# Altium footprint library MDL.PcbLib: 36 footprints (part 2 of 3)
Each footprint in its own frame and in the unit in brackets; x right, y up, seen from the top. Pads: shape width x height; smd on the part's side, far side on the other; paste and mask are expansions set on the pad; w line width, h text height; cw(c..) or ccw(c..) is an arc to the next point about the centre after c.
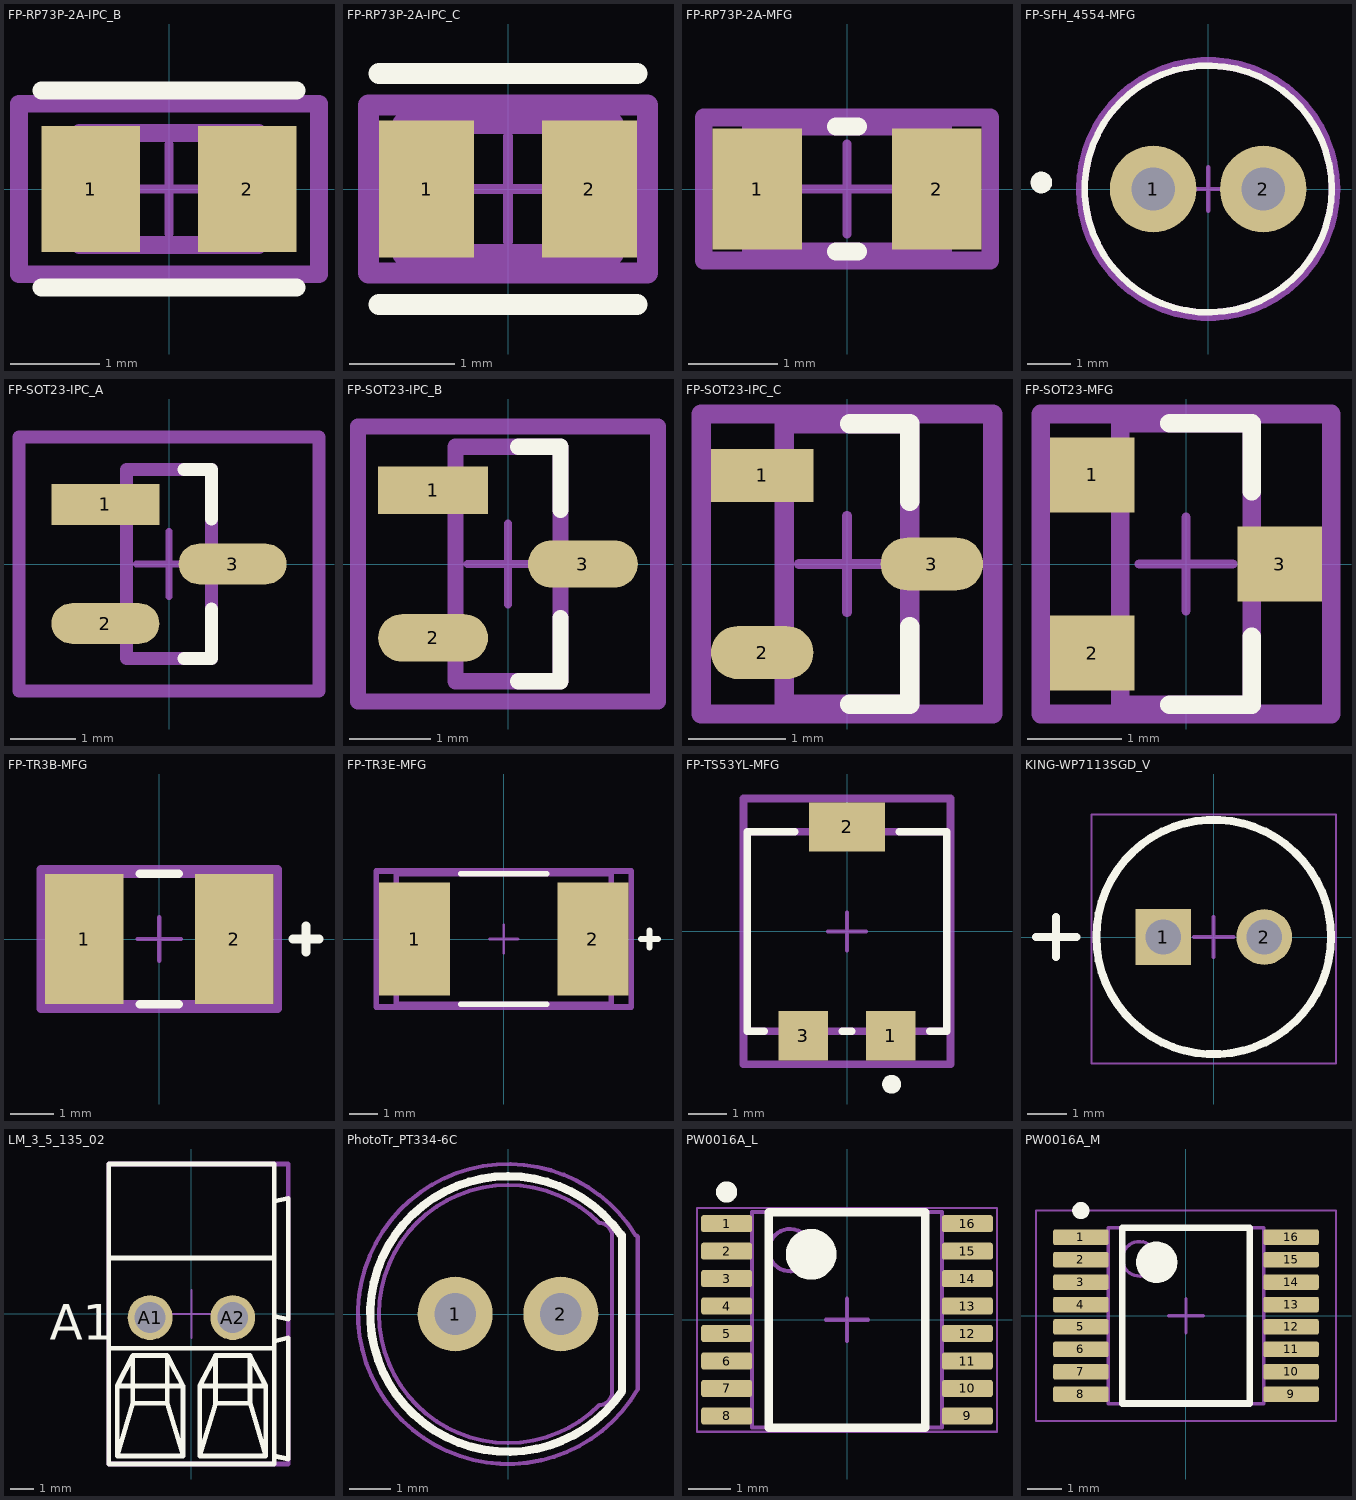
[diagram p1: the footprints below, top view; thin cyan lines are the x and y axes]

## FP-RP73P-2A-IPC_B [mm]
pads (2):
  rect 1.106x1.408 smd paste+0 mask+0: 1(-0.876,0) 2(0.876,0)
Top Overlay:
  lines w0.2: -1.429,-1.104 1.429,-1.104 ; -1.429,1.104 1.429,1.104
Top 3D Body:
  lines w0.2: -1,-0.625 -1,0.625 1,0.625 1,-0.625 -1,-0.625
Top Courtyard:
  lines w0.2: -1.679,-0.954 -1.679,0.954 1.679,0.954 1.679,-0.954 -1.679,-0.954
Top Assembly:
  lines w0.2: -1.679,-0.954 -1.679,0.954 1.679,0.954 1.679,-0.954 -1.679,-0.954
  text ".Designator" at 0,0.188 h1
Top Component Center:
  lines w0.1: -0.5,0 0.5,0 ; 0,-0.5 0,0.5
3D body "Res_TE_Connectivity_RP73PF2A1K15BTDF_eec.STEP": height 0.25, standoff 0, extent -1.679,-0.954 1.679,0.954

## FP-RP73P-2A-IPC_C [mm]
pads (2):
  rect 0.906x1.308 smd paste+0 mask+0: 1(-0.776,0) 2(0.776,0)
Top Overlay:
  lines w0.2: -1.229,-1.1 1.229,-1.1 ; -1.229,1.1 1.229,1.1
Top 3D Body:
  lines w0.2: -1,-0.625 1,-0.625 1,0.625 -1,0.625 -1,-0.625
Top Courtyard:
  lines w0.2: -1.329,-0.8 1.329,-0.8 1.329,0.8 -1.329,0.8 -1.329,-0.8
Top Assembly:
  lines w0.2: -1.329,-0.8 1.329,-0.8 1.329,0.8 -1.329,0.8 -1.329,-0.8
  text ".Designator" at 0,0.188 h1
Top Component Center:
  lines w0.1: -0.5,0 0.5,0 ; 0,-0.5 0,0.5
3D body "Res_TE_Connectivity_RP73PF2A1K15BTDF_eec.STEP": height 0.25, standoff 0, extent -1.329,-0.8 1.329,0.8

## FP-RP73P-2A-MFG [mm]
pads (2):
  rect 1x1.35 smd paste+0 mask+0: 1(-1,0) 2(1,0)
Top Overlay:
  lines w0.2: -0.125,-0.7 0.125,-0.7 ; -0.125,0.7 0.125,0.7
Top 3D Body:
  lines w0.2: -1.075,-0.7 1.075,-0.7 1.075,0.7 -1.075,0.7 -1.075,-0.7
Top Courtyard:
  lines w0.2: -1.6,-0.8 1.6,-0.8 1.6,0.8 -1.6,0.8 -1.6,-0.8
Top Assembly:
  lines w0.2: -1.6,-0.8 1.6,-0.8 1.6,0.8 -1.6,0.8 -1.6,-0.8
  text ".Designator" at 0,0.188 h1
Top Component Center:
  lines w0.1: -0.5,0 0.5,0 ; 0,-0.5 0,0.5
3D body "Res_TE_Connectivity_RP73PF2A1K15BTDF_eec.STEP": height 0.25, standoff 0, extent -1.6,-0.8 1.6,0.8

## FP-SFH_4554-MFG [mm]
pads (2):
  round 2 hole 1 paste-2539.97 mask+0: 1(-1.27,0) 2(1.27,0)
Top Overlay:
  circle w0.15: c0,0 r2.85
  circle w0.25: c-3.85,0.15 r0.125
Top 3D Body:
  circle w0.15: c0,0 r2.85
Top Courtyard:
  lines w0.2: -2.95,0 cw(c0,0) 2.95,0 cw(c0,0) -2.95,0
Top Assembly:
  text ".Designator" at 0,0.188 h1
Top Component Center:
  lines w0.1: -0.5,0 0.5,0 ; 0,-0.5 0,0.5
3D body "Diode_Osram_Opto_SFH_4554_eec.STEP": height 0.25, standoff 0, extent -2.95,-2.95 2.95,2.95

## FP-SOT23-IPC_A [mm]
pads (3):
  rect 1.659x0.627 smd paste+0 mask+0: 1(-0.977,0.915)
  rrect100% 1.659x0.627 smd paste+0 mask+0: 2(-0.977,-0.915) 3(0.977,0)
Top Overlay:
  lines w0.2: 0.228,-1.45 0.65,-1.45 0.65,-0.688 ; 0.228,1.45 0.65,1.45 0.65,0.688
Top 3D Body:
  lines w0.2: -0.65,-1.45 -0.65,1.45 0.65,1.45 0.65,-1.45 -0.65,-1.45
Top Courtyard:
  lines w0.2: -2.306,-1.95 -2.306,1.95 2.306,1.95 2.306,-1.95 -2.306,-1.95
Top Assembly:
  lines w0.2: -2.306,-1.95 -2.306,1.95 2.306,1.95 2.306,-1.95 -2.306,-1.95
  text ".Designator" at 0,-0.001 h1
Top Component Center:
  lines w0.1: -0.5,0 0.5,0 ; 0,-0.5 0,0.5
3D body "Diode_Diodes_Inc_BZX84C18-7-F_eec.STEP": height 0.25, standoff 0, extent -2.306,-1.95 2.306,1.95

## FP-SOT23-IPC_B [mm]
pads (3):
  rect 1.359x0.587 smd paste+0 mask+0: 1(-0.927,0.915)
  rrect100% 1.359x0.587 smd paste+0 mask+0: 2(-0.927,-0.915) 3(0.927,0)
Top Overlay:
  lines w0.2: 0.128,-1.45 0.65,-1.45 0.65,-0.668 ; 0.128,1.45 0.65,1.45 0.65,0.668
Top 3D Body:
  lines w0.2: -0.65,-1.45 0.65,-1.45 0.65,1.45 -0.65,1.45 -0.65,-1.45
Top Courtyard:
  lines w0.2: -1.856,-1.7 1.856,-1.7 1.856,1.7 -1.856,1.7 -1.856,-1.7
Top Assembly:
  lines w0.2: -1.856,-1.7 1.856,-1.7 1.856,1.7 -1.856,1.7 -1.856,-1.7
  text ".Designator" at 0,-0.001 h1
Top Component Center:
  lines w0.1: -0.5,0 0.5,0 ; 0,-0.5 0,0.5
3D body "Diode_Diodes_Inc_BZX84C18-7-F_eec.STEP": height 0.25, standoff 0, extent -1.856,-1.7 1.856,1.7

## FP-SOT23-IPC_C [mm]
pads (3):
  rect 1.059x0.547 smd paste+0 mask+0: 1(-0.877,0.915)
  rrect100% 1.059x0.547 smd paste+0 mask+0: 2(-0.877,-0.915) 3(0.877,0)
Top Overlay:
  lines w0.2: 0.028,-1.45 0.65,-1.45 0.65,-0.648 ; 0.028,1.45 0.65,1.45 0.65,0.648
Top 3D Body:
  lines w0.2: -0.65,-1.45 0.65,-1.45 0.65,1.45 -0.65,1.45 -0.65,-1.45
Top Courtyard:
  lines w0.2: -1.506,-1.55 1.506,-1.55 1.506,1.55 -1.506,1.55 -1.506,-1.55
Top Assembly:
  lines w0.2: -1.506,-1.55 1.506,-1.55 1.506,1.55 -1.506,1.55 -1.506,-1.55
  text ".Designator" at 0,-0.001 h1
Top Component Center:
  lines w0.1: -0.5,0 0.5,0 ; 0,-0.5 0,0.5
3D body "Diode_Diodes_Inc_BZX84C18-7-F_eec.STEP": height 0.25, standoff 0, extent -1.506,-1.55 1.506,1.55

## FP-SOT23-MFG [mm]
pads (3):
  rect 0.9x0.8 smd paste+0 mask+0: 1(-1,0.95) 2(-1,-0.95) 3(1,0)
Top Overlay:
  lines w0.2: -0.175,-1.5 0.7,-1.5 0.7,-0.775 ; -0.175,1.5 0.7,1.5 0.7,0.775
Top 3D Body:
  lines w0.2: -0.7,-1.5 0.7,-1.5 0.7,1.5 -0.7,1.5 -0.7,-1.5
Top Courtyard:
  lines w0.2: -1.55,-1.6 1.55,-1.6 1.55,1.6 -1.55,1.6 -1.55,-1.6
Top Assembly:
  lines w0.2: -1.55,-1.6 1.55,-1.6 1.55,1.6 -1.55,1.6 -1.55,-1.6
  text ".Designator" at 0,-0.001 h1
Top Component Center:
  lines w0.1: -0.5,0 0.5,0 ; 0,-0.5 0,0.5
3D body "Diode_Diodes_Inc_BZX84C18-7-F_eec.STEP": height 0.25, standoff 0, extent -1.55,-1.6 1.55,1.6

## FP-TR3B-MFG [mm]
pads (2):
  rect 1.8x3 smd paste+0 mask+0: 1(-1.725,0) 2(1.725,0)
Top Overlay:
  lines w0.2: -0.45,-1.5 0.45,-1.5 ; -0.45,1.5 0.45,1.5 ; 3.075,0 3.675,0 ; 3.375,-0.3 3.375,0.3
Top 3D Body:
  lines w0.2: -1.85,-1.5 -1.85,1.5 1.85,1.5 1.85,-1.5 -1.85,-1.5
Top Courtyard:
  lines w0.2: -2.725,-1.6 -2.725,1.6 2.725,1.6 2.725,-1.6 -2.725,-1.6
Top Assembly:
  lines w0.2: -2.725,-1.6 -2.725,1.6 2.725,1.6 2.725,-1.6 -2.725,-1.6
  text ".Designator" at 0,-0.001 h1
Top Component Center:
  lines w0.1: -0.5,0 0.5,0 ; 0,-0.5 0,0.5
3D body "Cap_Vishay_Sprague_TR3B107M010C1400_eec.STEP": height 0.25, standoff 0, extent -2.725,-1.6 2.725,1.6

## FP-TR3E-MFG [mm]
pads (2):
  rect 2.5x4 smd paste+0 mask+0: 1(-3.15,0) 2(3.15,0)
Top Overlay:
  lines w0.2: -1.525,-2.3 1.525,-2.3 ; -1.525,2.3 1.525,2.3 ; 4.85,0 5.45,0 ; 5.15,-0.3 5.15,0.3
Top 3D Body:
  lines w0.2: -3.8,-2.3 3.8,-2.3 3.8,2.3 -3.8,2.3 -3.8,-2.3
Top Courtyard:
  lines w0.2: -4.5,-2.4 4.5,-2.4 4.5,2.4 -4.5,2.4 -4.5,-2.4
Top Assembly:
  lines w0.2: -4.5,-2.4 4.5,-2.4 4.5,2.4 -4.5,2.4 -4.5,-2.4
  text ".Designator" at 0,-0.001 h1
Top Component Center:
  lines w0.1: -0.5,0 0.5,0 ; 0,-0.5 0,0.5
3D body "Cap_Vishay_TR3E477K010C0100_eec.STEP": height 0.25, standoff 0, extent -4.5,-2.4 4.5,2.4

## FP-TS53YL-MFG [mm]
pads (3):
  rect 1.3x1.3 smd paste+0 mask+0: 1(1.15,-2.75) 3(-1.15,-2.75)
  rect 2x1.3 smd paste+0 mask+0: 2(0,2.75)
Top Overlay:
  circle w0.25: c1.175,-4.025 r0.125
  lines w0.2: -2.175,-2.625 -2.625,-2.625 -2.625,2.625 -1.375,2.625 ; -0.125,-2.625 0.125,-2.625 ; 1.375,2.625 2.625,2.625 2.625,-2.625 2.175,-2.625
Top 3D Body:
  lines w0.2: -2.625,-2.625 -2.625,2.625 2.625,2.625 2.625,-2.625 -2.625,-2.625
Top Courtyard:
  lines w0.2: -2.725,-3.5 -2.725,3.5 2.725,3.5 2.725,-3.5 -2.725,-3.5
Top Assembly:
  lines w0.2: -2.725,-3.5 -2.725,3.5 2.725,3.5 2.725,-3.5 -2.725,-3.5
  text ".Designator" at 0,-0.001 h1
Top Component Center:
  lines w0.1: -0.5,0 0.5,0 ; 0,-0.5 0,0.5
3D body "Res_Vishay_TS53YL103MR10_eec.STEP": height 0.25, standoff 0, extent -2.725,-3.5 2.725,3.5

## KING-WP7113SGD_V [mm] "THD, 2-Leads, Dia 5.9mm, Body Length 8.6mm"
height 15.5
pads (2):
  rect 1.4x1.4 hole 0.889: 1(-1.27,0)
  round 1.4 hole 0.889: 2(1.27,0)
Top Overlay:
  circle w0.2: c0,0 r2.95
  lines w0.2: -4.466,0 -3.45,0 ; -3.958,-0.508 -3.958,-0.254 -3.958,0.254 -3.958,0.508
Mechanical 13:
  circle w0.1: c0,0 r2.95
Mechanical 15:
  lines w0.05: -3.075,-3.175 3.075,-3.175 3.075,3.075 -3.075,3.075 -3.075,-3.175
  lines w0.1: -0.5,0 0.5,0 ; 0,-0.5 0,0.5
3D body "WP7113.STEP": height 15.5, standoff -20.1, extent -2.95,-2.95 2.5,2.95

## LM_3_5_135_02 [mm] "OMNIMATE Signal - Serie LM  LM 3.50/02/135 3.2"
height 12.7
pads (2):
  round 1.9 hole 1.3: A1(-1.75,-0.15) A2(1.75,-0.15)
Top Overlay:
  lines w0.2: -3.5,-1.448 3.5,-1.448 ; -3.5,2.375 3.5,2.375 ; 3.5,-1.148 4.1,-1.012 4.1,-6.14 3.5,-6.012 3.5,-0.099 4.1,-0.226 4.1,4.902 3.5,4.766 ; 3.5,0.693 3.5,6.35 ; -3.145,-6.007 -3.145,-3.044 ; -3.145,-6.007 -2.48,-3.783 ; -3.145,-6.007 -0.355,-6.007 ; -3.145,-3.044 -2.48,-1.76 ; -3.145,-3.044 -0.355,-3.044 ; -2.48,-3.783 -2.48,-1.76 ; -2.48,-3.783 -1.02,-3.783 ; -2.48,-1.76 -1.02,-1.76 ; -1.02,-3.783 -1.02,-1.76 ; -1.02,-3.783 -0.355,-6.007 ; -1.02,-1.76 -0.355,-3.044 ; -0.355,-6.007 -0.355,-3.044 ; 0.355,-6.007 3.145,-6.007 ; 0.355,-6.007 1.02,-3.783 ; 0.355,-6.007 0.355,-3.044 ; 0.355,-3.044 3.145,-3.044 ; 0.355,-3.044 1.02,-1.76 ; 1.02,-3.783 2.48,-3.783 ; 1.02,-3.783 1.02,-1.76 ; 1.02,-1.76 2.48,-1.76 ; 2.48,-3.783 3.145,-6.007 ; 2.48,-3.783 2.48,-1.76 ; 2.48,-1.76 3.145,-3.044 ; 3.145,-6.007 3.145,-3.044 ; 3.5,6.35 3.5,-6.35 -3.5,-6.35 -3.5,6.35 3.5,6.35
  text "A1" at -6,-1.095 h1.5
Mechanical 15:
  lines w0.1: -1,0 1,0 ; 0,-1 0,1
  lines w0.2: -3.5,-6.35 4.1,-6.35 4.1,6.35 -3.5,6.35 -3.5,-6.35
3D body "LM_3_50_02_135_3_2SN_OR_BX_1714980000_2_14b.stp": height 12.71, standoff -3.19, extent -3.5,-6.35 4.1,6.35

## PhotoTr_PT334-6C [mm]
height 9.7
pads (2):
  round 1.8 hole 1: 1(-1.27,0) 2(1.27,0)
Top Overlay:
  lines w0.2: 2.709,1.906 cw(c2.709,1.874) 2.741,1.874 2.741,-1.86 cw(c0,0) 2.709,1.906
Top Courtyard:
  lines w0.1: 3.074,1.884 cw(c3.074,1.84) 3.118,1.84 3.118,-1.81 cw(c0,0) 3.074,1.884
Top Assembly:
  lines w0.1: 2.5,-1.884 cw(c2.192,-1.884) 2.192,-2.192 cw(c0,0) 2.192,2.192 cw(c2.192,1.884) 2.5,1.884 ; 2.5,-1.884 2.5,1.884 ; 2.5,-1.884 2.5,1.884
3D body: height 2.7, standoff 1.5, extent -3.1,-3.11 2.5,3.11
3D body: height 11.9, standoff 1.5, extent -2.54,-2.54 2.54,2.54

## PW0016A_L [mm] "SOP, 16-Leads, Body 5.1x4.5mm, Pitch 0.65mm, IPC High Density"
height 1.2
pads (16):
  rrect25% 1.2x0.4 smd: 1(-2.85,2.275) 2(-2.85,1.625) 3(-2.85,0.975) 4(-2.85,0.325) 5(-2.85,-0.325) 6(-2.85,-0.975) 7(-2.85,-1.625) 8(-2.85,-2.275) 9(2.85,-2.275) 10(2.85,-1.625) 11(2.85,-0.975) 12(2.85,-0.325) 13(2.85,0.325) 14(2.85,0.975) 15(2.85,1.625) 16(2.85,2.275)
Top Overlay:
  circle w0.6: c-0.85,1.55 r0.3
  circle w0.25: c-2.85,3.025 r0.125
  lines w0.2: -1.85,-2.55 1.85,-2.55 1.85,2.55 -1.85,2.55 -1.85,-2.55
Top Assembly:
  circle w0.1: c-1.35,1.65 r0.5
  lines w0.1: -2.25,-2.55 2.25,-2.55 2.25,2.55 -2.25,2.55 -2.25,-2.55
  text ".Designator" at -1.524,-0.508 h1.02
Mechanical 15:
  lines w0.05: -3.55,-2.65 3.55,-2.65 3.55,2.65 -3.55,2.65 -3.55,-2.65
  lines w0.1: -0.5,0 0.5,0 ; 0,-0.5 0,0.5
3D body "PW0016AakaMTC16.stp": height 1, standoff 0, extent -3.21,-2.5 3.21,2.5

## PW0016A_M [mm] "SOP, 16-Leads, Body 5.1x4.5mm, Pitch 0.65mm, IPC Low Density"
height 1.2
pads (16):
  rrect22% 1.6x0.45 smd: 1(-3.05,2.275) 2(-3.05,1.625) 3(-3.05,0.975) 4(-3.05,0.325) 5(-3.05,-0.325) 6(-3.05,-0.975) 7(-3.05,-1.625) 8(-3.05,-2.275) 9(3.05,-2.275) 10(3.05,-1.625) 11(3.05,-0.975) 12(3.05,-0.325) 13(3.05,0.325) 14(3.05,0.975) 15(3.05,1.625) 16(3.05,2.275)
Top Overlay:
  circle w0.6: c-0.85,1.55 r0.3
  circle w0.25: c-3.05,3.05 r0.125
  lines w0.2: -1.85,-2.55 1.85,-2.55 1.85,2.55 -1.85,2.55 -1.85,-2.55
Mechanical 1:
  text ".Designator" at -1.524,-0.508 h1.02
Mechanical 13:
  circle w0.1: c-1.35,1.65 r0.5
  lines w0.1: -2.25,-2.55 2.25,-2.55 2.25,2.55 -2.25,2.55 -2.25,-2.55
Mechanical 15:
  lines w0.05: -4.35,-3.05 4.35,-3.05 4.35,3.05 -4.35,3.05 -4.35,-3.05
  lines w0.1: -0.5,0 0.5,0 ; 0,-0.5 0,0.5
3D body "PW0016AakaMTC16.stp": height 1, standoff 0, extent -3.21,-2.5 3.21,2.5